# EAGLE library part ULN2803 (library TI)
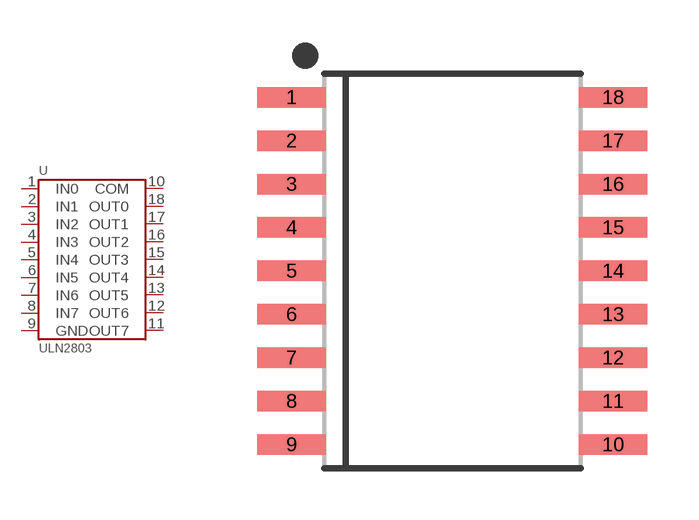
[diagram p8: symbol with the pads of SOIC-18-W; footprint SOIC-18-W]

Designator prefix U

## ULN2803ADWR  [SOIC-18-W]
1  IN0
2  IN1
3  IN2
4  IN3
5  IN4
6  IN5
7  IN6
8  IN7
9  GND
10  COM
11  OUT7
12  OUT6
13  OUT5
14  OUT4
15  OUT3
16  OUT2
17  OUT1
18  OUT0

## Footprint SOIC-18-W (pad centres in mm)
smd 2 x 0.6: 1 -4.7,5.08; 2 -4.7,3.81; 3 -4.7,2.54; 4 -4.7,1.27; 5 -4.7,0; 6 -4.7,-1.27; 7 -4.7,-2.54; 8 -4.7,-3.81; 9 -4.7,-5.08; 10 4.7,-5.08; 11 4.7,-3.81; 12 4.7,-2.54; 13 4.7,-1.27; 14 4.7,0; 15 4.7,1.27; 16 4.7,2.54; 17 4.7,3.81; 18 4.7,5.08